# EAGLE library part PIC18F1XK50 (library GadgetFactory_v1)
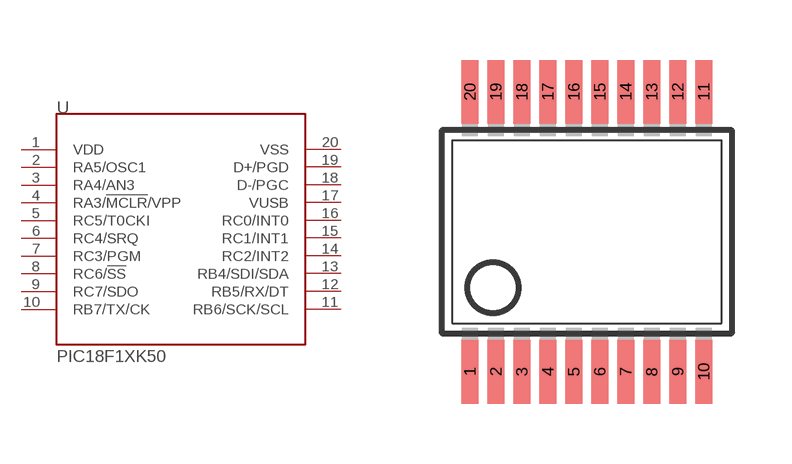
[diagram p15: symbol with the pads of SSOP20; footprint SSOP20]

Designator prefix U

## PIC18F1XK50SS  [SSOP20]
1  VDD  pwr
2  RA5/OSC1
3  RA4/AN3
4  RA3/!MCLR!/VPP
5  RC5/T0CKI
6  RC4/SRQ
7  RC3/PGM
8  RC6/!SS
9  RC7/SDO
10  RB7/TX/CK
11  RB6/SCK/SCL
12  RB5/RX/DT
13  RB4/SDI/SDA
14  RC2/INT2
15  RC1/INT1
16  RC0/INT0
17  VUSB
18  D-/PGC
19  D+/PGD
20  VSS  pwr

## Footprint SSOP20 (pad centres in mm)
Small Shrink Outline Package
smd 0.42 x 1.6: 1 -2.925,-3.502; 2 -2.275,-3.502; 3 -1.625,-3.502; 4 -0.975,-3.502; 5 -0.325,-3.502; 6 0.325,-3.502; 7 0.975,-3.502; 8 1.625,-3.502; 9 2.275,-3.502; 10 2.925,-3.502; 11 2.925,3.502; 12 2.275,3.502; 13 1.625,3.502; 14 0.975,3.502; 15 0.325,3.502; 16 -0.325,3.502; 17 -0.975,3.502; 18 -1.625,3.502; 19 -2.275,3.502; 20 -2.925,3.502